# EAGLE library part STM32F050F4P6 (library my-library)
STM32F050F4P6
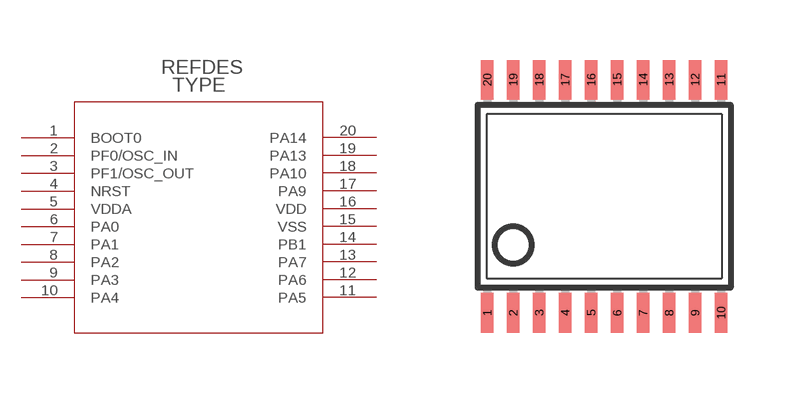
[diagram p0: symbol with the pads of TSSOP20; footprint TSSOP20]

Designator prefix -

## STM32F050F4P6  [TSSOP20]
1  BOOT0  pas
2  PF0/OSC_IN  pas
3  PF1/OSC_OUT  pas
4  NRST  pas
5  VDDA  pas
6  PA0  pas
7  PA1  pas
8  PA2  pas
9  PA3  pas
10  PA4  pas
11  PA5  pas
12  PA6  pas
13  PA7  pas
14  PB1  pas
15  VSS  pas
16  VDD  pas
17  PA9  pas
18  PA10  pas
19  PA13  pas
20  PA14  pas

## Footprint TSSOP20 (pad centres in mm)
Thin Shrink Small Outline Plastic 20
smd 0.305 x 0.991: 1 -2.925,-2.918; 2 -2.275,-2.918; 3 -1.625,-2.918; 4 -0.975,-2.918; 5 -0.325,-2.918; 6 0.325,-2.918; 7 0.975,-2.918; 8 1.625,-2.918; 9 2.275,-2.918; 10 2.925,-2.918; 11 2.925,2.918; 12 2.275,2.918; 13 1.625,2.918; 14 0.975,2.918; 15 0.325,2.918; 16 -0.325,2.918; 17 -0.975,2.918; 18 -1.625,2.918; 19 -2.275,2.918; 20 -2.925,2.918